# EAGLE library part NUP4201MR6 (library toyotune)
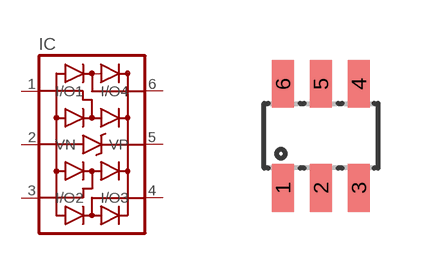
[diagram p34: symbol with the pads of SOT23-6L; footprint SOT23-6L]

Designator prefix IC

## NUP4201MR6  [SOT23-6L]
1  I/O1
2  VN
3  I/O2
4  I/O3
5  VP
6  I/O4

## Footprint SOT23-6L (pad centres in mm)
Small Outline Transistor
smd 0.55 x 1.2: 1 -0.95,-1.3; 2 0,-1.3; 3 0.95,-1.3; 4 0.95,1.3; 5 0,1.3; 6 -0.95,1.3